# Altium schematic symbol library Диоды.SchLib: 1 symbol
Pins are listed as number, name and electrical type; pins without a type are passive.

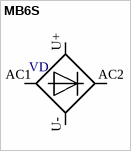
[diagram p0: symbol MB6S]

## MB6S
designator VD  (value not drawn)
Miniature Glass Passivated Fast Recovery / Surface-Mount Bridge Rectifier
footprint TO-269AA (Под MB2S, MB4S, MB6S)
pins: AC1, AC2, U+, U-